# EAGLE library part MCP6002-I//P (library _RoweTel)
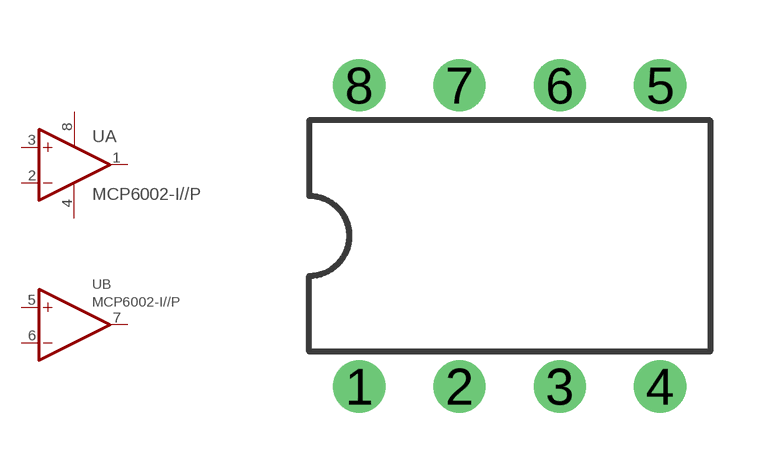
[diagram p45: symbol with the pads of DIL08; footprint DIL08]

Designator prefix U; gates A=MCP6002-I/P B=OPAMP

## MCP6002-I//P  [DIL08]
1  A:1  out
2  A:2  in
3  A:3  in
4  A:4  sup
5  B:+IN  in
6  B:-IN  in
7  B:OUT  out
8  A:8  sup

## Footprint DIL08 (pad centres in mm)
Dual In Line Package
drill 0.813 pad 1.27: 1 -3.81,-3.81; 2 -1.27,-3.81; 3 1.27,-3.81; 4 3.81,-3.81; 5 3.81,3.81; 6 1.27,3.81; 7 -1.27,3.81; 8 -3.81,3.81